# Altium schematic symbol library FPC_CONNECTORS.SchLib: 5 symbols
Pins are listed as number, name and electrical type; pins without a type are passive.

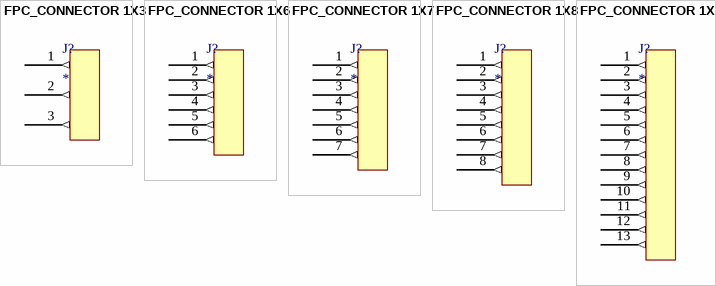
[diagram p0: symbols FPC_CONNECTOR 1X3 to FPC_CONNECTOR 1X13]

## FPC_CONNECTOR 1X3
designator J?
footprint FPC_CONNECTOR 1X6
pins: 1 (out), 2 (out), 3 (out)

## FPC_CONNECTOR 1X6
designator J?
footprint FPC_CONNECTOR 1X6
pins: 1 (out), 2 (out), 3 (out), 4 (out), 5 (out), 6 (out)

## FPC_CONNECTOR 1X7
designator J?
footprint FPC_CONNECTOR 1X7
pins: 1 (out), 2 (out), 3 (out), 4 (out), 5 (out), 6 (out), 7 (out)

## FPC_CONNECTOR 1X8
designator J?
footprint FPC_CONNECTOR 1X8
pins: 1 (out), 2 (out), 3 (out), 4 (out), 5 (out), 6 (out), 7 (out), 8 (out)

## FPC_CONNECTOR 1X13
designator J?
footprint FPC Connector 1x13
pins: 1 (out), 2 (out), 3 (out), 4 (out), 5 (out), 6 (out), 7 (out), 8 (out), 9 (out), 10 (out), 11 (out), 12 (out), 13 (out)